# Altium schematic symbol library LABEL_JUSTIFY_TEST.SchLib: 1 symbol
Pins are listed as number, name and electrical type; pins without a type are passive.

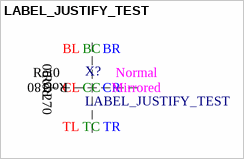
[diagram p0: symbol LABEL_JUSTIFY_TEST]

## LABEL_JUSTIFY_TEST
designator X?
Test all label justification options
text: BL; BC; BR; Rot0; Normal; Rot90; Rot180; CL; CC; CR; Mirrored; Rot270; TL; TC; TR